# Altium schematic symbol library MY-I.MX6-SCH_Library.SchLib: 148 symbols
Pins are listed as number, name and electrical type; pins without a type are passive.

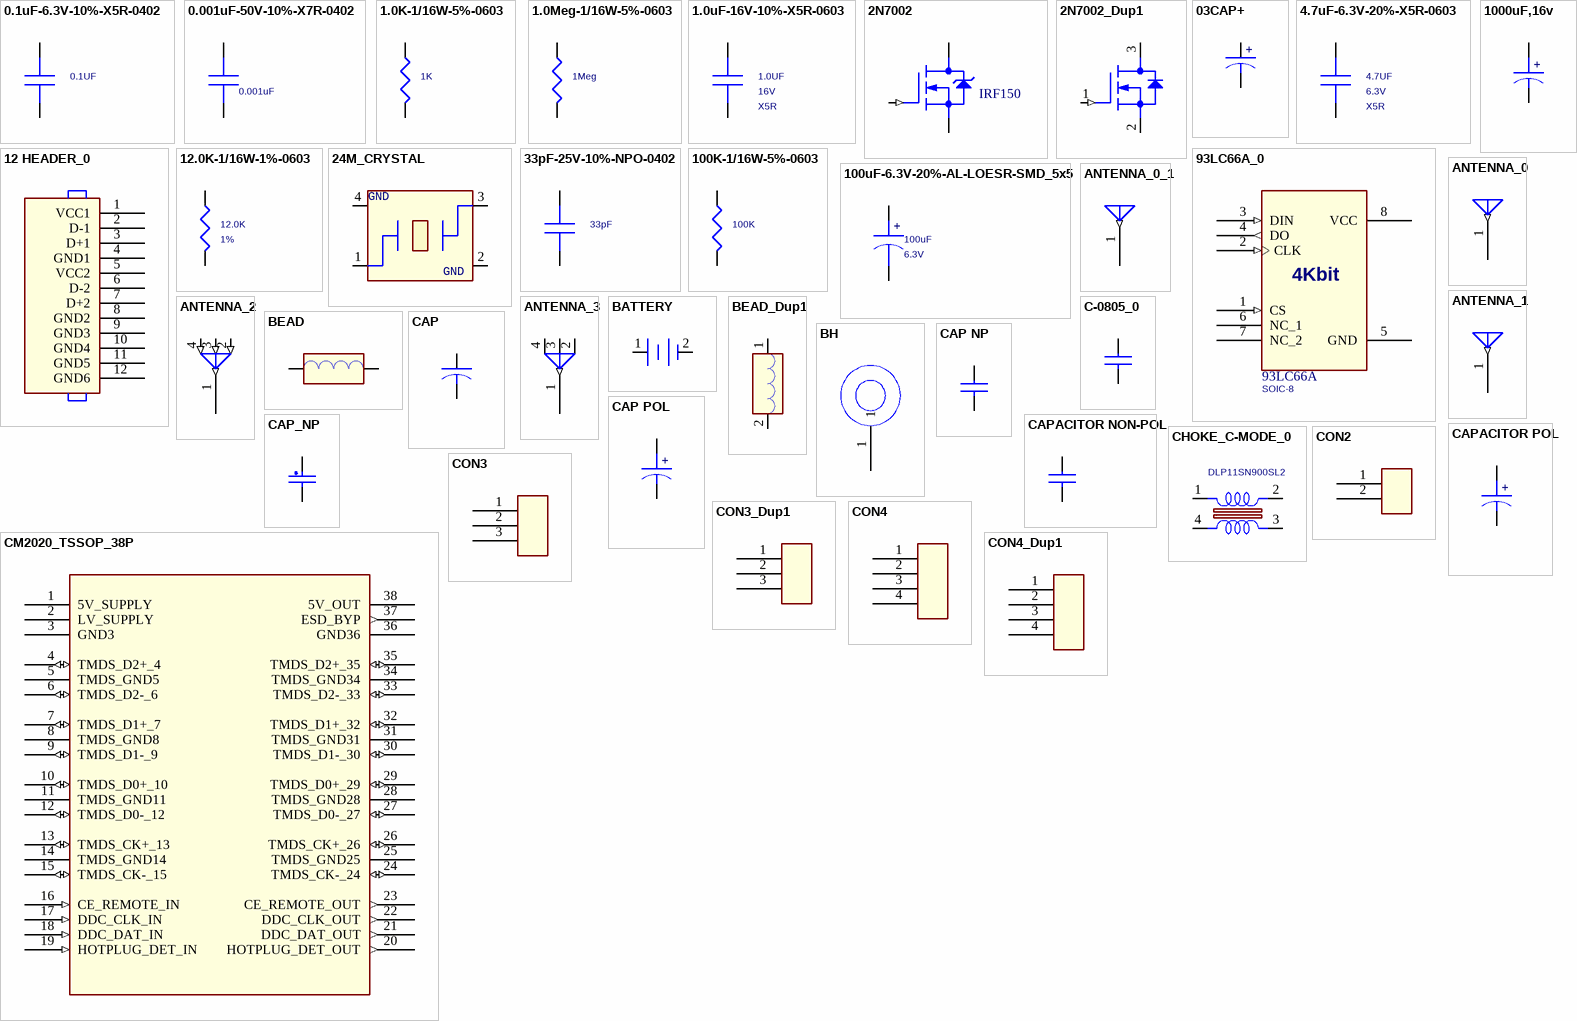
[diagram p0: symbols 0.1uF-6.3V-10%-X5R-0402 to CON4_Dup1]

## 0.1uF-6.3V-10%-X5R-0402
designator C?, comment 0.1UF
Capacitor, 0.1uF, 6.3V, 10%, X5R, 0402; Cost_100: 0.0184; Cost_1K: 0.01005; Dist1: Digikey; Dist1_PN: PCC2146CT-ND; Device: CAP0402; Mfg1_PN: ECJ-0EB1A104K; Mfg1: Panasonic; Cost_Reel: 0.00871; Mfg2_PN: MCCJ104K0NRTF; DNP: No; Cost: 0.026; Dielectric: X5R; Voltage: 6.3V; TOLERANCE: 10%; Mfg2: SMEC
footprint SMD_0402
pins: 1, 2

## 0.001uF-50V-10%-X7R-0402
designator C?, comment 0.001uF
Capacitor, 1000pF, 50V, 10%, X7R, 0402; DNP: No; Cost_100: 0.0486; Device: CAP0402; Mfg1_PN: MCCJ102K0NRTF; Mfg1: SMEC; Cost_Reel: 0.0026; Mfg2_PN: ECJ-0EB1E102K; Cost_1K: 0.02666; Cost: 0.072; Dielectric: X7R; Voltage: 50V; TOLERANCE: 10%; Mfg2: Panasonic
footprint SMD_0402
pins: 1, 2

## 1.0K-1/16W-5%-0603
designator R?, comment 1K
Resistor, 1K, 5%, 1/16W, 0603; DNP: No; Mfg3_PN: RK73B1JLTD102J; Dist1: Digikey; Dist1_PN: 311-1.0KGCT-ND; Mfg1_PN: 9C06031A1001JLHFT; Mfg2_PN: MCR03EZHJ102; Mfg1: Yageo America; Device: RES0603; Cost_Reel: 0.00468; Cost_1K: 0.01612; Cost_100: 0.0412; Mfg3: KOA Speer; Cost: 0.076; Mfg2: KOA Speer; Tolerance: 5%; Wattage: 1/16W
footprint SMD_0603
pins: 1, 2

## 1.0Meg-1/16W-5%-0603
designator R?, comment 1Meg
Resistor, 1Meg, 5%, 1/16W, 0603; DNP: No; Mfg3_PN: RK73B1JLTD105J; Mfg1_PN: 9C06031A1004JLHFT; Mfg2_PN: MCR03EZHJ105; Mfg1: Yageo America; Device: RES0603; Dist1_PN: 311-1.0MGCT-ND; Dist1: Digikey; Cost_Reel: 0.00468; Cost_1K: 0.01612; Cost_100: 0.0412; Mfg3: KOA Speer; Mfg2: Rohm; Tolerance: 5%; Wattage: 1/16W; Cost: 0.076
footprint SMD_0603
pins: 1, 2

## 1.0uF-16V-10%-X5R-0603
designator C?, comment 1.0UF  Dielectric: X5R  Voltage: 16V
Capacitor, 1.0uF, 16VDC, 10%, X5R, 0603; DNP: No; Cost_100: 0.0943; Mfg1: Panasonic; Device: CAP0603; Mfg1_PN: ECJ-1VB1C105K; Dist1_PN: PCC2224CT-ND; Dist1: Digikey; Cost_Reel: 0.049; Cost_1K: 0.05279; Tolerance: 10%; Cost: 0.132
footprint SMD_0603
pins: 1, 2

## 2N7002
designator Q?, comment IRF150
pins: 1 GATE (in), 2 SOURCE, 3 DRAIN

## 2N7002_Dup1
designator Q?
pins: 1 GATE (in), 2 SOURCE, 3 DRAIN

## 03CAP+
designator CT?
footprint C1206
pins: 1, 2
text: +

## 4.7uF-6.3V-20%-X5R-0603
designator C?, comment 4.7UF  Dielectric: X5R  Voltage: 6.3V
Capacitor, 4.7uF, 6.3VDC, 20%, X5R, 0603; DNP: No; Cost_100: 0.1665; Cost_1K: 0.09084; PCB Footprint: 603; Mfg1: Panasonic; Device: CAP0603; Mfg1_PN: ECJ-1VB0J475M; Dist1_PN: PCC2318CT-ND; Dist1: Digikey; Tolerance: 20%; Cost: 0.236
footprint SMD_0603
pins: 1, 2

## 12 HEADER_0
designator J?
pins: 1 VCC1, 2 D-1, 3 D+1, 4 GND1, 5 VCC2, 6 D-2, 7 D+2, 8 GND2, 9 GND3, 10 GND4, 11 GND5, 12 GND6

## 12.0K-1/16W-1%-0603
designator R?, comment 12.0K  Tolerance: 1%
Resistor, 12.0K, 1%, 1/16W, 0603; DNP: No; Dist1: Digikey; Dist1_PN: 311-12.0KHCT-ND; Device: RES0603; Mfg1: Yageo America; Mfg2_PN: MCR03EZHF1202; Mfg1_PN: 9C06031A1202FKHFT; Cost_Reel: 0.00765; Cost_1K: 0.019; Cost_100: 0.0484; Cost: 0.09; Wattage: 1/16W; Mfg2: Rohm
footprint SMD_0603
pins: 1, 2

## 24M_CRYSTAL
designator U?
pins: 1, 2 GND2, 3, 4 GND1
text: GND

## 33pF-25V-10%-NPO-0402
designator C?, comment 33pF
Capacitor, 33pF, 25V, 10%, NPO, 0402; Cost_100: 0.0384; Cost_1K: 0.01534; Cost_Reel: 0.01062; Dist1: Digikey; Dist1_PN: PCC330CQCT-ND; Device: CAP0402; Mfg1_PN: ECJ-0EC1H330J; Mfg1: Panasonic ECG; Voltage: 50V; PCB Footprint: 402; Mfg2_PN: MCCJ330K0NRTF; DNP: No; Cost: 0.065; Dielectric: NPO; TOLERANCE: 10%; Mfg2: SMEC
footprint SMD_0402
pins: 1, 2

## 93LC66A_0
designator U?, comment 93LC66A  PCB Footprint: SOIC-8
PART#: Microchip - 93LC66A/SN
footprint SOIC-8
pins: 1 CS (in), 2 CLK (in), 3 DIN (in), 4 DO (out), 5 GND (power), 6 NC_1, 7 NC_2, 8 VCC (power)
text: 4Kbit

## 100K-1/16W-5%-0603
designator R?, comment 100K
Resistor, 100K, 5%, 1/16W, 0603; DNP: No; Cost_100: 0.0412; Cost_1K: 0.01612; Cost_Reel: 0.02365; Dist1: Digikey; Dist1_PN: 311-100KGCT-ND; Device: RES0603; Mfg1: Yageo America; Mfg2_PN: MCR03EZHJ104; Mfg1_PN: 9C06031A1003JLHFT; Cost: 0.076; Wattage: 1/16W; Tolerance: 5%; Mfg2: Rohm
footprint SMD_0603
pins: 1, 2

## 100uF-6.3V-20%-AL-LOESR-SMD_5x5
designator C?, comment 100uF  Voltage: 6.3V
Capacitor, Low ESR, 100uF, 6.3VDC, 20%, Aluminum, Radial-SMT, 5mm x 5.8mm; Mfg2_PN: EEE-FPJ101UAR; DNP: No; Cost_1K: 0.071; Cost_100: 0.1324; Dist1: United Chemi-Con; Dist1_PN: EMZA6R3ADA101ME61G; Device: CAPE_RAD_5_SMT; Mfg2: Panasonic; Cost: 0.188; Dielectric: Aluminum; Mfg1_PN: EMZA6R3ADA101ME61G; Tolerance: 20%; Mfg1: United Chemi-Con
footprint CAPE_RAD_5_SMT
pins: 1, 2
text: +

## 1000uF,16v
designator CD?
footprint AEC12r5x13r5
pins: 1, 2
text: +

## ANTENNA_0
designator E?
pins: 1 (out), 2 GND (power) hidden to GND, 3 GND (power) hidden to GND, 4 GND (power) hidden to GND

## ANTENNA_0_1
designator E?
pins: 1 (out), 2 GND_ANT (power) hidden to GND_ANT, 3 GND_ANT (power) hidden to GND_ANT, 4 GND_ANT (power) hidden to GND_ANT

## ANTENNA_1
designator E?
pins: 1 (out), 2 (power) hidden, 3 (power) hidden, 4 (power) hidden

## ANTENNA_2
designator E?
pins: 1 (out), 2 (in), 3 (in), 4 (in)

## ANTENNA_3
designator E?
pins: 1 (out), 2, 3, 4

## BATTERY
designator BT?
pins: 1, 2

## BEAD
designator L?
pins: 1, 2

## BEAD_Dup1
designator L?
pins: 1, 2

## BH
designator H?
pins: 1

## C-0805_0
designator C?
footprint C-0805
pins: 1, 2

## CAP
designator C?
pins: 1, 2

## CAP NP
designator C?
pins: 1, 2

## CAP POL
designator C?
pins: 1, 2
text: +

## CAP_NP
designator C?
CLASS: DISCRETE
pins: 1, 2

## CAPACITOR NON-POL
designator C?
pins: 1, 2

## CAPACITOR POL
designator C?
pins: 1, 2
text: +

## CHOKE_C-MODE_0
designator L?, comment DLP11SN900SL2
Inductor, Common Mode Choke, DLP11SN900SL2, 0504; Cost_100: 0.32; Cost_1K: 0.26; Dist1_PN: 81-DLP11SN900SL2L; Mfg1: Murata; Dist1: Mouser; Device: 0504CHOKE; DNP: No; Mfg2_PN: EXC-24CE201U; Cost: 0.56; Mfg1_PN: DLP11SN900SL2; Mfg2: Panasonic
footprint MURATA_DLW21S
pins: 1, 2, 3, 4

## CM2020_TSSOP_38P
designator U?
CLASS: IC
pins: 1 5V_SUPPLY (power), 2 LV_SUPPLY (power), 3 GND3 (power), 4 TMDS_D2+_4 (io), 5 TMDS_GND5 (power), 6 TMDS_D2-_6 (io), 7 TMDS_D1+_7 (io), 8 TMDS_GND8 (power), 9 TMDS_D1-_9 (io), 10 TMDS_D0+_10 (io), 11 TMDS_GND11 (power), 12 TMDS_D0-_12 (io), 13 TMDS_CK+_13 (io), 14 TMDS_GND14 (power), 15 TMDS_CK-_15 (io), 16 CE_REMOTE_IN (in), 17 DDC_CLK_IN (in), 18 DDC_DAT_IN (in), 19 HOTPLUG_DET_IN (in), 20 HOTPLUG_DET_OUT (out), 21 DDC_DAT_OUT (out), 22 DDC_CLK_OUT (out), 23 CE_REMOTE_OUT (out), 24 TMDS_CK-_24 (io), 25 TMDS_GND25 (power), 26 TMDS_CK+_26 (io), 27 TMDS_D0-_27 (io), 28 TMDS_GND28 (power), 29 TMDS_D0+_29 (io), 30 TMDS_D1-_30 (io), 31 TMDS_GND31 (power), 32 TMDS_D1+_32 (io), 33 TMDS_D2-_33 (io), 34 TMDS_GND34 (power), 35 TMDS_D2+_35 (io), 36 GND36 (power), 37 ESD_BYP (out), 38 5V_OUT (power)

## CON2
designator J?
pins: 1, 2

## CON3
designator J?
pins: 1, 2, 3

## CON3_Dup1
designator J?
pins: 1, 2, 3

## CON4
designator J?
pins: 1, 2, 3, 4

## CON4_Dup1
designator J?
pins: 1, 2, 3, 4

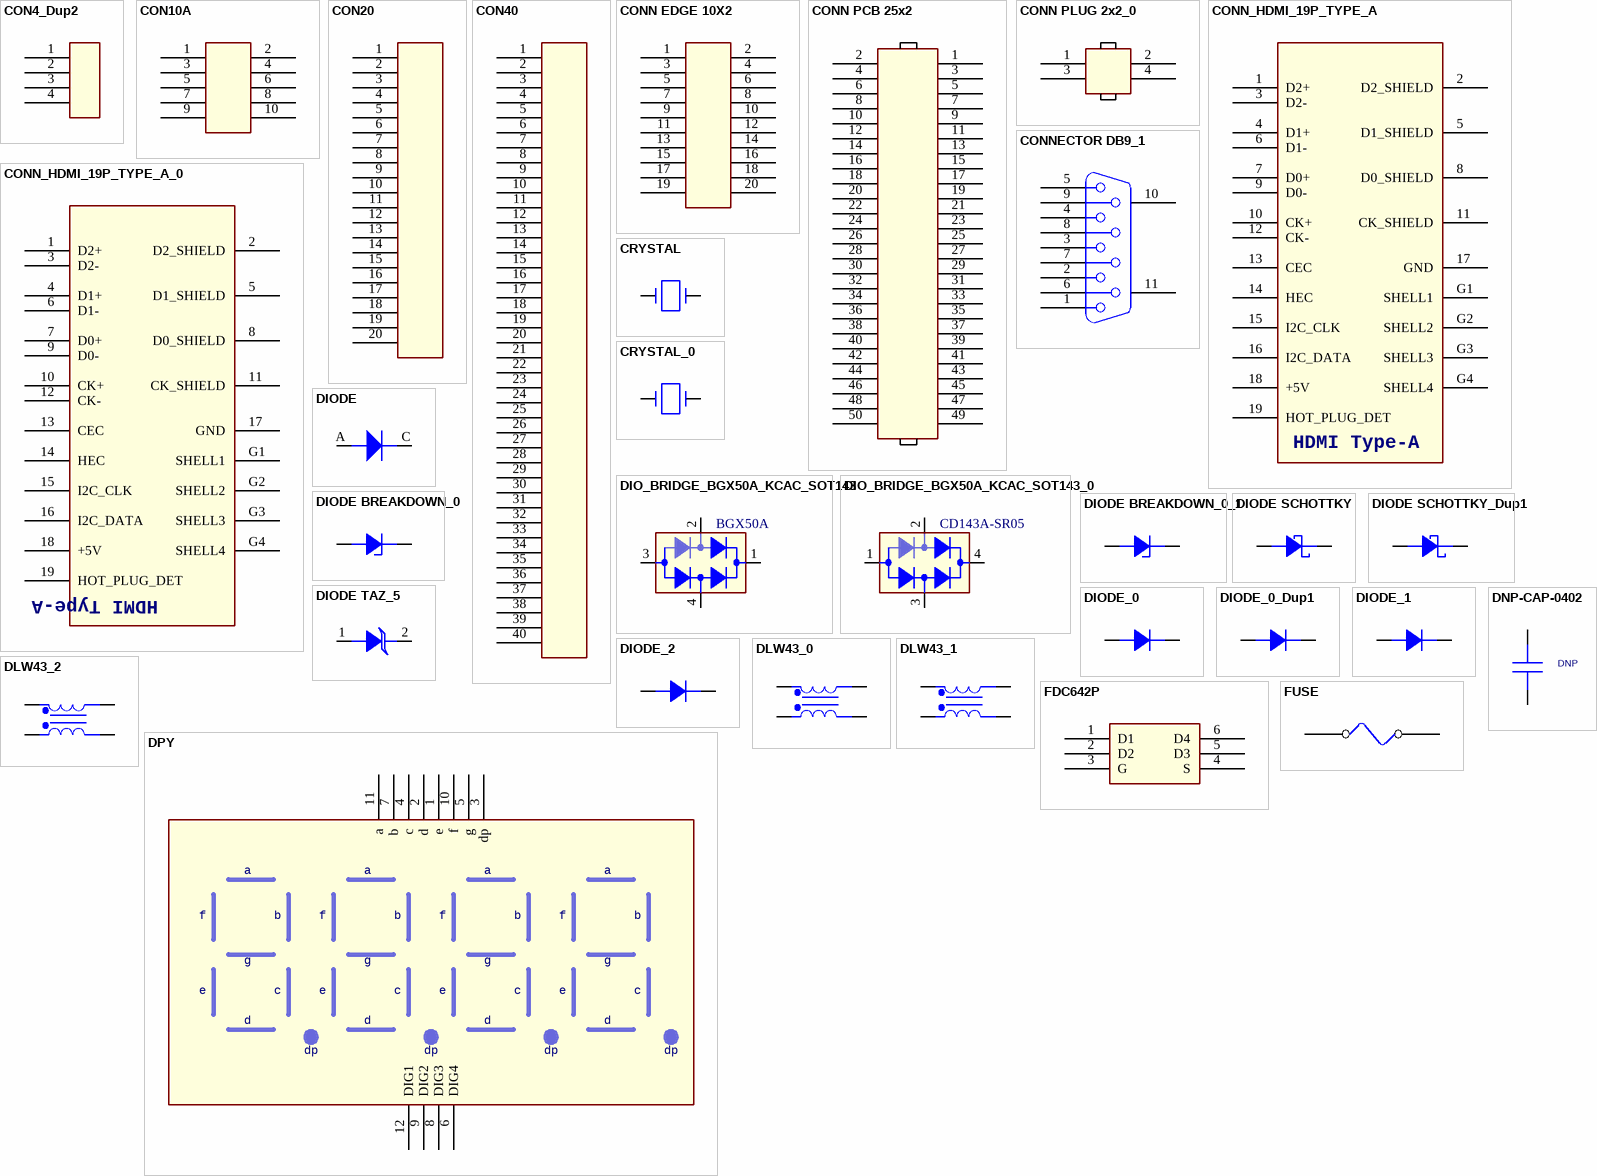
[diagram p1: symbols CON4_Dup2 to FUSE]

## CON4_Dup2
designator J?
pins: 1, 2, 3, 4

## CON10A
designator J?
pins: 1, 2, 3, 4, 5, 6, 7, 8, 9, 10

## CON20
designator J?
pins: 1, 2, 3, 4, 5, 6, 7, 8, 9, 10, 11, 12, 13, 14, 15, 16, 17, 18, 19, 20

## CON40
designator J?
pins: 1, 2, 3, 4, 5, 6, 7, 8, 9, 10, 11, 12, 13, 14, 15, 16, 17, 18, 19, 20, 21, 22, 23, 24, 25, 26, 27, 28, 29, 30, 31, 32, 33, 34, 35, 36, 37, 38, 39, 40

## CONN EDGE 10X2
designator J?
pins: 1, 2, 3, 4, 5, 6, 7, 8, 9, 10, 11, 12, 13, 14, 15, 16, 17, 18, 19, 20

## CONN PCB 25x2
designator J?
pins: 1, 2, 3, 4, 5, 6, 7, 8, 9, 10, 11, 12, 13, 14, 15, 16, 17, 18, 19, 20, 21, 22, 23, 24, 25, 26, 27, 28, 29, 30, 31, 32, 33, 34, 35, 36, 37, 38, 39, 40, 41, 42, 43, 44, 45, 46, 47, 48, 49, 50

## CONN PLUG 2x2_0
designator J?
pins: 1 2, 2 1, 3 4, 4 3

## CONN_HDMI_19P_TYPE_A
designator J?
pins: 1 D2+, 2 D2_SHIELD, 3 D2-, 4 D1+, 5 D1_SHIELD, 6 D1-, 7 D0+, 8 D0_SHIELD, 9 D0-, 10 CK+, 11 CK_SHIELD, 12 CK-, 13 CEC, 14 HEC, 15 I2C_CLK, 16 I2C_DATA, 17 GND, 18 +5V, 19 HOT_PLUG_DET, G1 SHELL1, G2 SHELL2, G3 SHELL3, G4 SHELL4
text: HDMI Type-A

## CONN_HDMI_19P_TYPE_A_0
designator J?
pins: 1 D2+, 2 D2_SHIELD, 3 D2-, 4 D1+, 5 D1_SHIELD, 6 D1-, 7 D0+, 8 D0_SHIELD, 9 D0-, 10 CK+, 11 CK_SHIELD, 12 CK-, 13 CEC, 14 HEC, 15 I2C_CLK, 16 I2C_DATA, 17 GND, 18 +5V, 19 HOT_PLUG_DET, G1 SHELL1, G2 SHELL2, G3 SHELL3, G4 SHELL4
text: HDMI Type-A

## CONNECTOR DB9_1
designator P?
pins: 1, 2, 3, 4, 5, 6, 7, 8, 9, 10, 11

## CRYSTAL
designator Y?
pins: 1, 2

## CRYSTAL_0
designator Y?
pins: 1, 2

## DIO_BRIDGE_BGX50A_KCAC_SOT143
designator BR?, comment BGX50A
Diode, Bridge, Switching, 50V, 140mA,KCAC,  SOT-143; Cost_100: 0.165; Cost_10: 0.234; Cost_1K: 0.075; Cost_Reel: 0.06113; Dist1: Digikey; Dist1_PN: BGX50AINCT-ND; Device: DIODE_KCAC_BRIDGE_BGX50A; Mfg1: Infineon Tech; DNP: No; Mfg1_PN: BGX50A
footprint SOT143
pins: 1, 2, 3, 4

## DIO_BRIDGE_BGX50A_KCAC_SOT143_0
designator BR?, comment CD143A-SR05
Diode, Bridge, Switching, 50V, 140mA,KCAC,  SOT-143; DNP: No; Mfg1_PN: BGX50A; Mfg1: Infineon Tech; Device: DIODE_KCAC_BRIDGE_BGX50A; Dist1_PN: BGX50AINCT-ND; Dist1: Digikey; Cost_Reel: 0.06113; Cost_1K: 0.075; Cost_10: 0.234; Cost_100: 0.165
footprint SOT143
pins: 1, 2, 3, 4

## DIODE
designator D?
CLASS: IC
pins: A ANODE, C CATHODE

## DIODE BREAKDOWN_0
designator D?
pins: 1 ANODE, 2 CATHODE

## DIODE BREAKDOWN_0_1
designator D?
pins: 1 ANODE, 2 CATHODE

## DIODE SCHOTTKY
designator D?
pins: 1 ANODE, 2 CATHODE

## DIODE SCHOTTKY_Dup1
designator D?
pins: 1 ANODE, 2 CATHODE

## DIODE TAZ_5
designator D?
pins: 1 A, 2 C

## DIODE_0
designator D?
pins: 1, 2

## DIODE_0_Dup1
designator D?
pins: 1 K, 2 A

## DIODE_1
designator D?
pins: 1 K, 2 A

## DIODE_2
designator D?
pins: 1 A, 2 K

## DLW43_0
designator L?
pins: 1, 2, 3, 4

## DLW43_1
designator L?
pins: 1, 2, 3, 4

## DLW43_2
designator L?
pins: 1, 2, 3, 4

## DNP-CAP-0402
designator C?, comment DNP
Capacitor, Do Not Populate, 0402; Cost_100: 0; Device: CAP0402; Cost_1K: 0; Cost_Reel: 0; Cost: 0
footprint SMD_0402
pins: 1, 2

## DPY
designator DP?
pins: 1 e, 2 d, 3 dp, 4 c, 5 g, 6 DIG4, 7 b, 8 DIG3, 9 DIG2, 10 f, 11 a, 12 DIG1

## FDC642P
designator U?
pins: 1 D1, 2 D2, 3 G, 4 S, 5 D3, 6 D4

## FUSE
designator F?
pins: 1, 2

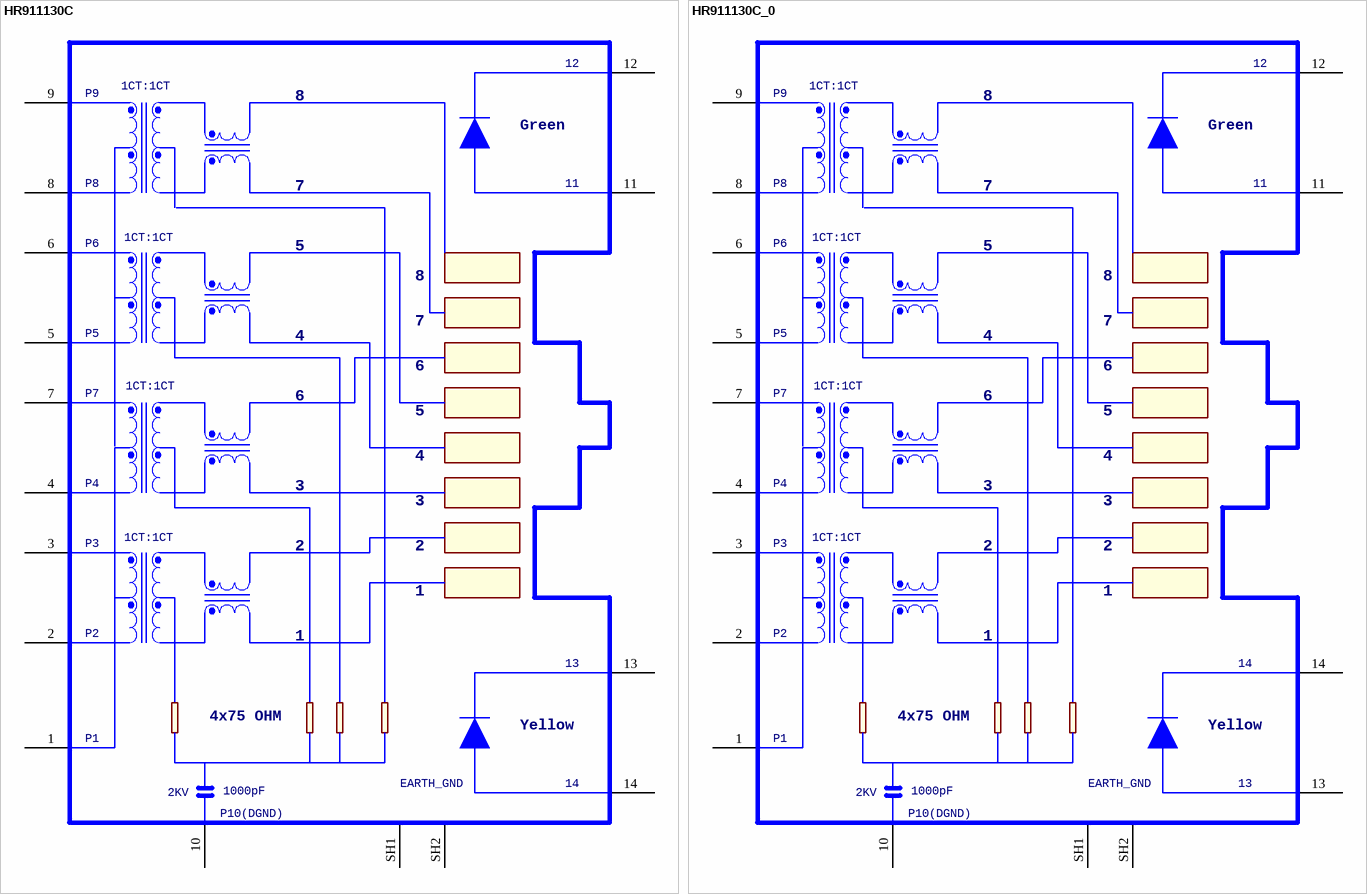
[diagram p2: symbols HR911130C to HR911130C_0]

## HR911130C
designator U?
footprint GBE_RJ45_HR911130C
pins: 1 CT1/2/3/4, 2 MDI_0+, 3 MDI_0-, 4 MDI_1+, 5 MDI_2+, 6 MDI_2-, 7 MDI_1-, 8 MDI_3+, 9 MDI_3-, 10 GND, 11 G_LED+, 12 G_LED-, 13 Y_LED-, 14 Y_LED+, SH1, SH2
text: 1CT:1CT; P9; Green; P8; P6; P5; P7; P4; P3; P2; 4x75 OHM; Yellow; P1; EARTH_GND; 2KV; 1000pF; P10(DGND)

## HR911130C_0
designator U?
footprint GBE_RJ45_HR911130C
pins: 1 CT1/2/3/4, 2 MDI_0+, 3 MDI_0-, 4 MDI_1+, 5 MDI_2+, 6 MDI_2-, 7 MDI_1-, 8 MDI_3+, 9 MDI_3-, 10 GND, 11 G_LED+, 12 G_LED-, 13 Y_LED-, 14 Y_LED+, SH1, SH2
text: 1CT:1CT; P9; Green; P8; P6; P5; P7; P4; P3; P2; 4x75 OHM; Yellow; P1; EARTH_GND; 2KV; 1000pF; P10(DGND)

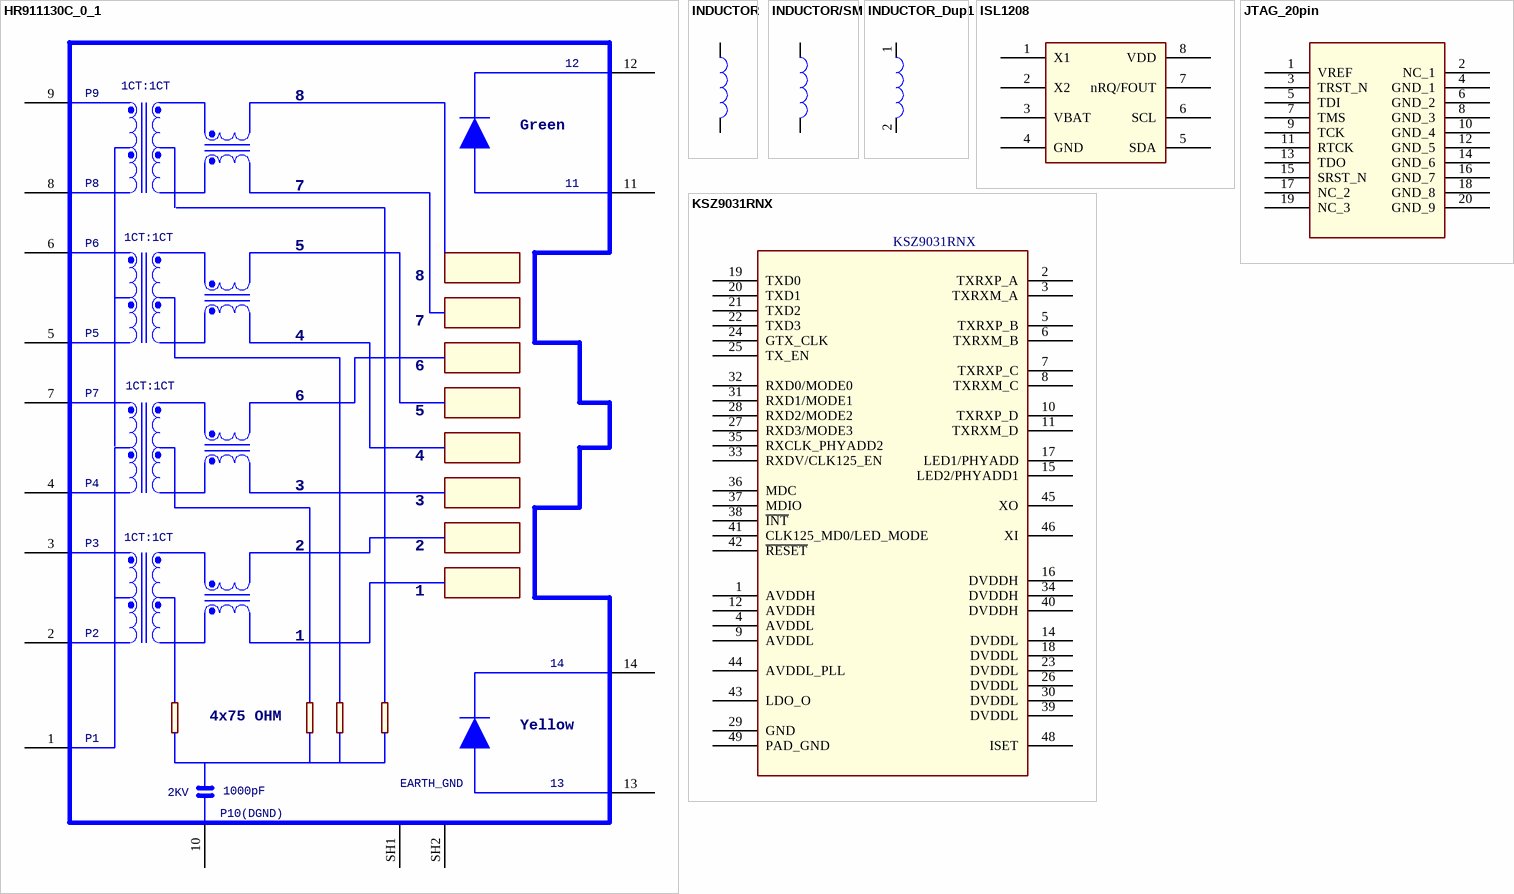
[diagram p3: symbols HR911130C_0_1 to KSZ9031RNX]

## HR911130C_0_1
designator U?
footprint GBE_RJ45_HR911130C
pins: 1 CT1/2/3/4, 2 MDI_0+, 3 MDI_0-, 4 MDI_1+, 5 MDI_2+, 6 MDI_2-, 7 MDI_1-, 8 MDI_3+, 9 MDI_3-, 10 GND, 11 G_LED+, 12 G_LED-, 13 Y_LED-, 14 Y_LED+, SH1, SH2
text: 1CT:1CT; P9; Green; P8; P6; P5; P7; P4; P3; P2; 4x75 OHM; Yellow; P1; EARTH_GND; 2KV; 1000pF; P10(DGND)

## INDUCTOR
designator L?
pins: 1, 2

## INDUCTOR/SM
designator L?
pins: 1, 2

## INDUCTOR_Dup1
designator L?
CLASS: DISCRETE
pins: 1, 2

## ISL1208
designator U?
pins: 1 X1, 2 X2, 3 VBAT, 4 GND, 5 SDA, 6 SCL, 7 nRQ/FOUT, 8 VDD

## JTAG_20pin
designator J?
pins: 1 VREF, 2 NC_1, 3 TRST_N, 4 GND_1, 5 TDI, 6 GND_2, 7 TMS, 8 GND_3, 9 TCK, 10 GND_4, 11 RTCK, 12 GND_5, 13 TDO, 14 GND_6, 15 SRST_N, 16 GND_7, 17 NC_2, 18 GND_8, 19 NC_3, 20 GND_9

## KSZ9031RNX
designator U?
footprint QFN48
pins: 1 AVDDH (power), 2 TXRXP_A, 3 TXRXM_A, 4 AVDDL (power), 5 TXRXP_B, 6 TXRXM_B, 7 TXRXP_C, 8 TXRXM_C, 9 AVDDL (power), 10 TXRXP_D, 11 TXRXM_D, 12 AVDDH (power), 13 NC (power) hidden to NC, 14 DVDDL (power), 15 LED2/PHYADD1, 16 DVDDH (power), 17 LED1/PHYADD, 18 DVDDL (power), 19 TXD0, 20 TXD1, 21 TXD2, 22 TXD3, 23 DVDDL (power), 24 GTX_CLK, 25 TX_EN, 26 DVDDL (power), 27 RXD3/MODE3, 28 RXD2/MODE2, 29 GND (power), 30 DVDDL (power), 31 RXD1/MODE1, 32 RXD0/MODE0, 33 RXDV/CLK125_EN, 34 DVDDH (power), 35 RXCLK_PHYADD2, 36 MDC, 37 MDIO, 38 ~{INT}, 39 DVDDL (power), 40 DVDDH (power), 41 CLK125_MD0/LED_MODE, 42 ~{RESET}, 43 LDO_O (power), 44 AVDDL_PLL (power), 45 XO, 46 XI, 47 NC (power) hidden to NC, 48 ISET, 49 PAD_GND (power)

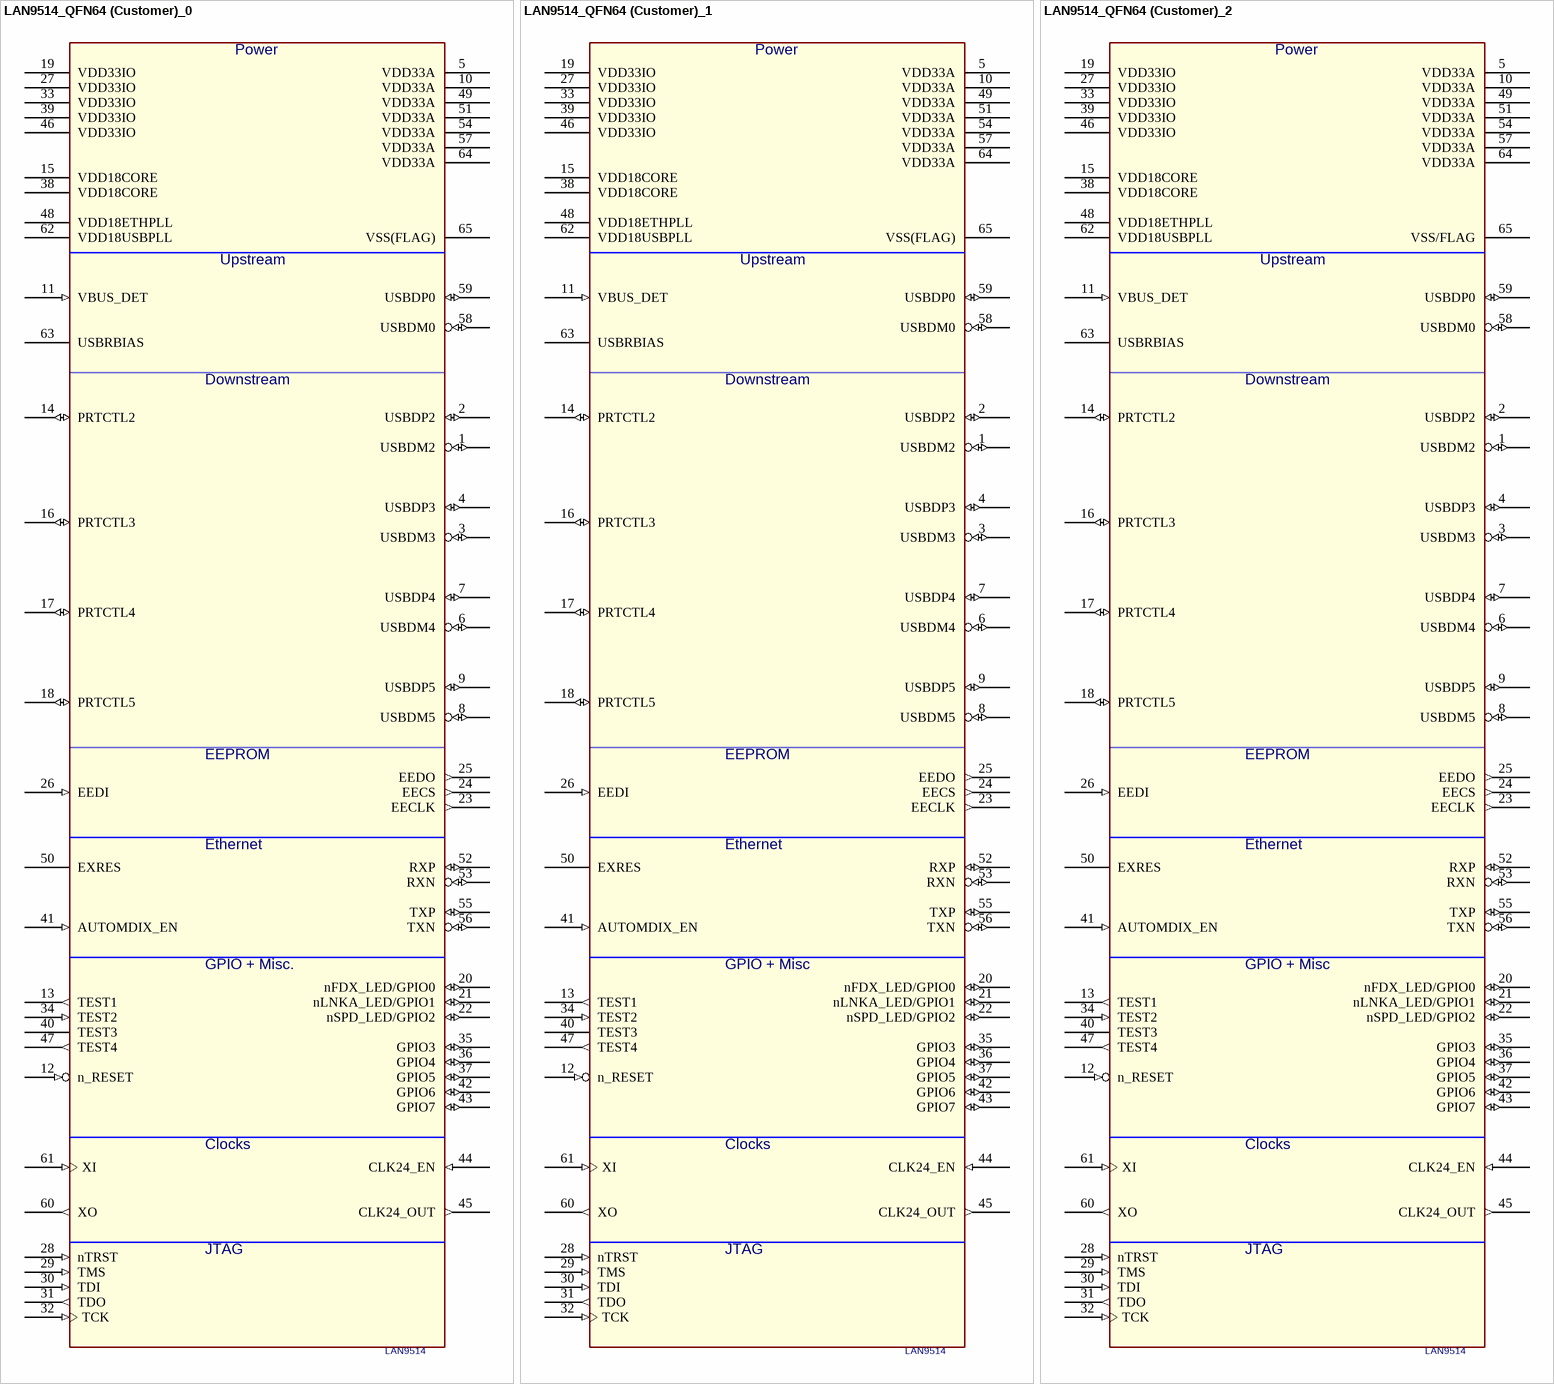
[diagram p4: symbols LAN9514_QFN64 (Customer)_0 to LAN9514_QFN64 (Customer)_2]

## LAN9514_QFN64 (Customer)_0
designator U?  PART#: LAN9514  (hidden comment: *)
PCB Footprint: QFN64_9X9MM_EP7P3MM
footprint QFN64_9X9MM_EP7P3MM
pins: 1 USBDM2 (io), 2 USBDP2 (io), 3 USBDM3 (io), 4 USBDP3 (io), 5 VDD33A (power), 6 USBDM4 (io), 7 USBDP4 (io), 8 USBDM5 (io), 9 USBDP5 (io), 10 VDD33A (power), 11 VBUS_DET (in), 12 n_RESET (in), 13 TEST1 (out), 14 PRTCTL2 (io), 15 VDD18CORE (power), 16 PRTCTL3 (io), 17 PRTCTL4 (io), 18 PRTCTL5 (io), 19 VDD33IO (power), 20 nFDX_LED/GPIO0 (io), 21 nLNKA_LED/GPIO1 (io), 22 nSPD_LED/GPIO2 (io), 23 EECLK (out), 24 EECS (out), 25 EEDO (out), 26 EEDI (in), 27 VDD33IO (power), 28 nTRST (in), 29 TMS (in), 30 TDI (in), 31 TDO (out), 32 TCK (in), 33 VDD33IO (power), 34 TEST2 (in), 35 GPIO3 (io), 36 GPIO4 (io), 37 GPIO5 (io), 38 VDD18CORE (power), 39 VDD33IO (power), 40 TEST3 (power), 41 AUTOMDIX_EN (in), 42 GPIO6 (io), 43 GPIO7 (io), 44 CLK24_EN (in), 45 CLK24_OUT (out), 46 VDD33IO (power), 47 TEST4 (out), 48 VDD18ETHPLL (power), 49 VDD33A (power), 50 EXRES, 51 VDD33A (power), 52 RXP (io), 53 RXN (io), 54 VDD33A (power), 55 TXP (io), 56 TXN (io), 57 VDD33A (power), 58 USBDM0 (io), 59 USBDP0 (io), 60 XO (out), 61 XI (in), 62 VDD18USBPLL (power), 63 USBRBIAS, 64 VDD33A (power), 65 VSS(FLAG) (power)
text: Power; Upstream; Downstream; EEPROM; Ethernet; GPIO + Misc.; Clocks; JTAG

## LAN9514_QFN64 (Customer)_1
designator U?  PART#: LAN9514  (hidden comment: *)
PCB Footprint: QFN64_9X9MM_EP7P3MM
footprint QFN64_9X9MM_EP7P3MM
pins: 1 USBDM2 (io), 2 USBDP2 (io), 3 USBDM3 (io), 4 USBDP3 (io), 5 VDD33A (power), 6 USBDM4 (io), 7 USBDP4 (io), 8 USBDM5 (io), 9 USBDP5 (io), 10 VDD33A (power), 11 VBUS_DET (in), 12 n_RESET (in), 13 TEST1 (out), 14 PRTCTL2 (io), 15 VDD18CORE (power), 16 PRTCTL3 (io), 17 PRTCTL4 (io), 18 PRTCTL5 (io), 19 VDD33IO (power), 20 nFDX_LED/GPIO0 (io), 21 nLNKA_LED/GPIO1 (io), 22 nSPD_LED/GPIO2 (io), 23 EECLK (out), 24 EECS (out), 25 EEDO (out), 26 EEDI (in), 27 VDD33IO (power), 28 nTRST (in), 29 TMS (in), 30 TDI (in), 31 TDO (out), 32 TCK (in), 33 VDD33IO (power), 34 TEST2 (in), 35 GPIO3 (io), 36 GPIO4 (io), 37 GPIO5 (io), 38 VDD18CORE (power), 39 VDD33IO (power), 40 TEST3 (power), 41 AUTOMDIX_EN (in), 42 GPIO6 (io), 43 GPIO7 (io), 44 CLK24_EN (in), 45 CLK24_OUT (out), 46 VDD33IO (power), 47 TEST4 (out), 48 VDD18ETHPLL (power), 49 VDD33A (power), 50 EXRES, 51 VDD33A (power), 52 RXP (io), 53 RXN (io), 54 VDD33A (power), 55 TXP (io), 56 TXN (io), 57 VDD33A (power), 58 USBDM0 (io), 59 USBDP0 (io), 60 XO (out), 61 XI (in), 62 VDD18USBPLL (power), 63 USBRBIAS, 64 VDD33A (power), 65 VSS(FLAG) (power)
text: Power; Upstream; Downstream; EEPROM; Ethernet; GPIO + Misc; Clocks; JTAG

## LAN9514_QFN64 (Customer)_2
designator U?  PART#: LAN9514  (hidden comment: *)
PCB Footprint: QFN64_9X9MM_EP7P3MM
footprint QFN64_9X9MM_EP7P3MM
pins: 1 USBDM2 (io), 2 USBDP2 (io), 3 USBDM3 (io), 4 USBDP3 (io), 5 VDD33A (power), 6 USBDM4 (io), 7 USBDP4 (io), 8 USBDM5 (io), 9 USBDP5 (io), 10 VDD33A (power), 11 VBUS_DET (in), 12 n_RESET (in), 13 TEST1 (out), 14 PRTCTL2 (io), 15 VDD18CORE (power), 16 PRTCTL3 (io), 17 PRTCTL4 (io), 18 PRTCTL5 (io), 19 VDD33IO (power), 20 nFDX_LED/GPIO0 (io), 21 nLNKA_LED/GPIO1 (io), 22 nSPD_LED/GPIO2 (io), 23 EECLK (out), 24 EECS (out), 25 EEDO (out), 26 EEDI (in), 27 VDD33IO (power), 28 nTRST (in), 29 TMS (in), 30 TDI (in), 31 TDO (out), 32 TCK (in), 33 VDD33IO (power), 34 TEST2 (in), 35 GPIO3 (io), 36 GPIO4 (io), 37 GPIO5 (io), 38 VDD18CORE (power), 39 VDD33IO (power), 40 TEST3 (power), 41 AUTOMDIX_EN (in), 42 GPIO6 (io), 43 GPIO7 (io), 44 CLK24_EN (in), 45 CLK24_OUT (out), 46 VDD33IO (power), 47 TEST4 (out), 48 VDD18ETHPLL (power), 49 VDD33A (power), 50 EXRES, 51 VDD33A (power), 52 RXP (io), 53 RXN (io), 54 VDD33A (power), 55 TXP (io), 56 TXN (io), 57 VDD33A (power), 58 USBDM0 (io), 59 USBDP0 (io), 60 XO (out), 61 XI (in), 62 VDD18USBPLL (power), 63 USBRBIAS, 64 VDD33A (power), 65 VSS/FLAG (power)
text: Power; Upstream; Downstream; EEPROM; Ethernet; GPIO + Misc; Clocks; JTAG

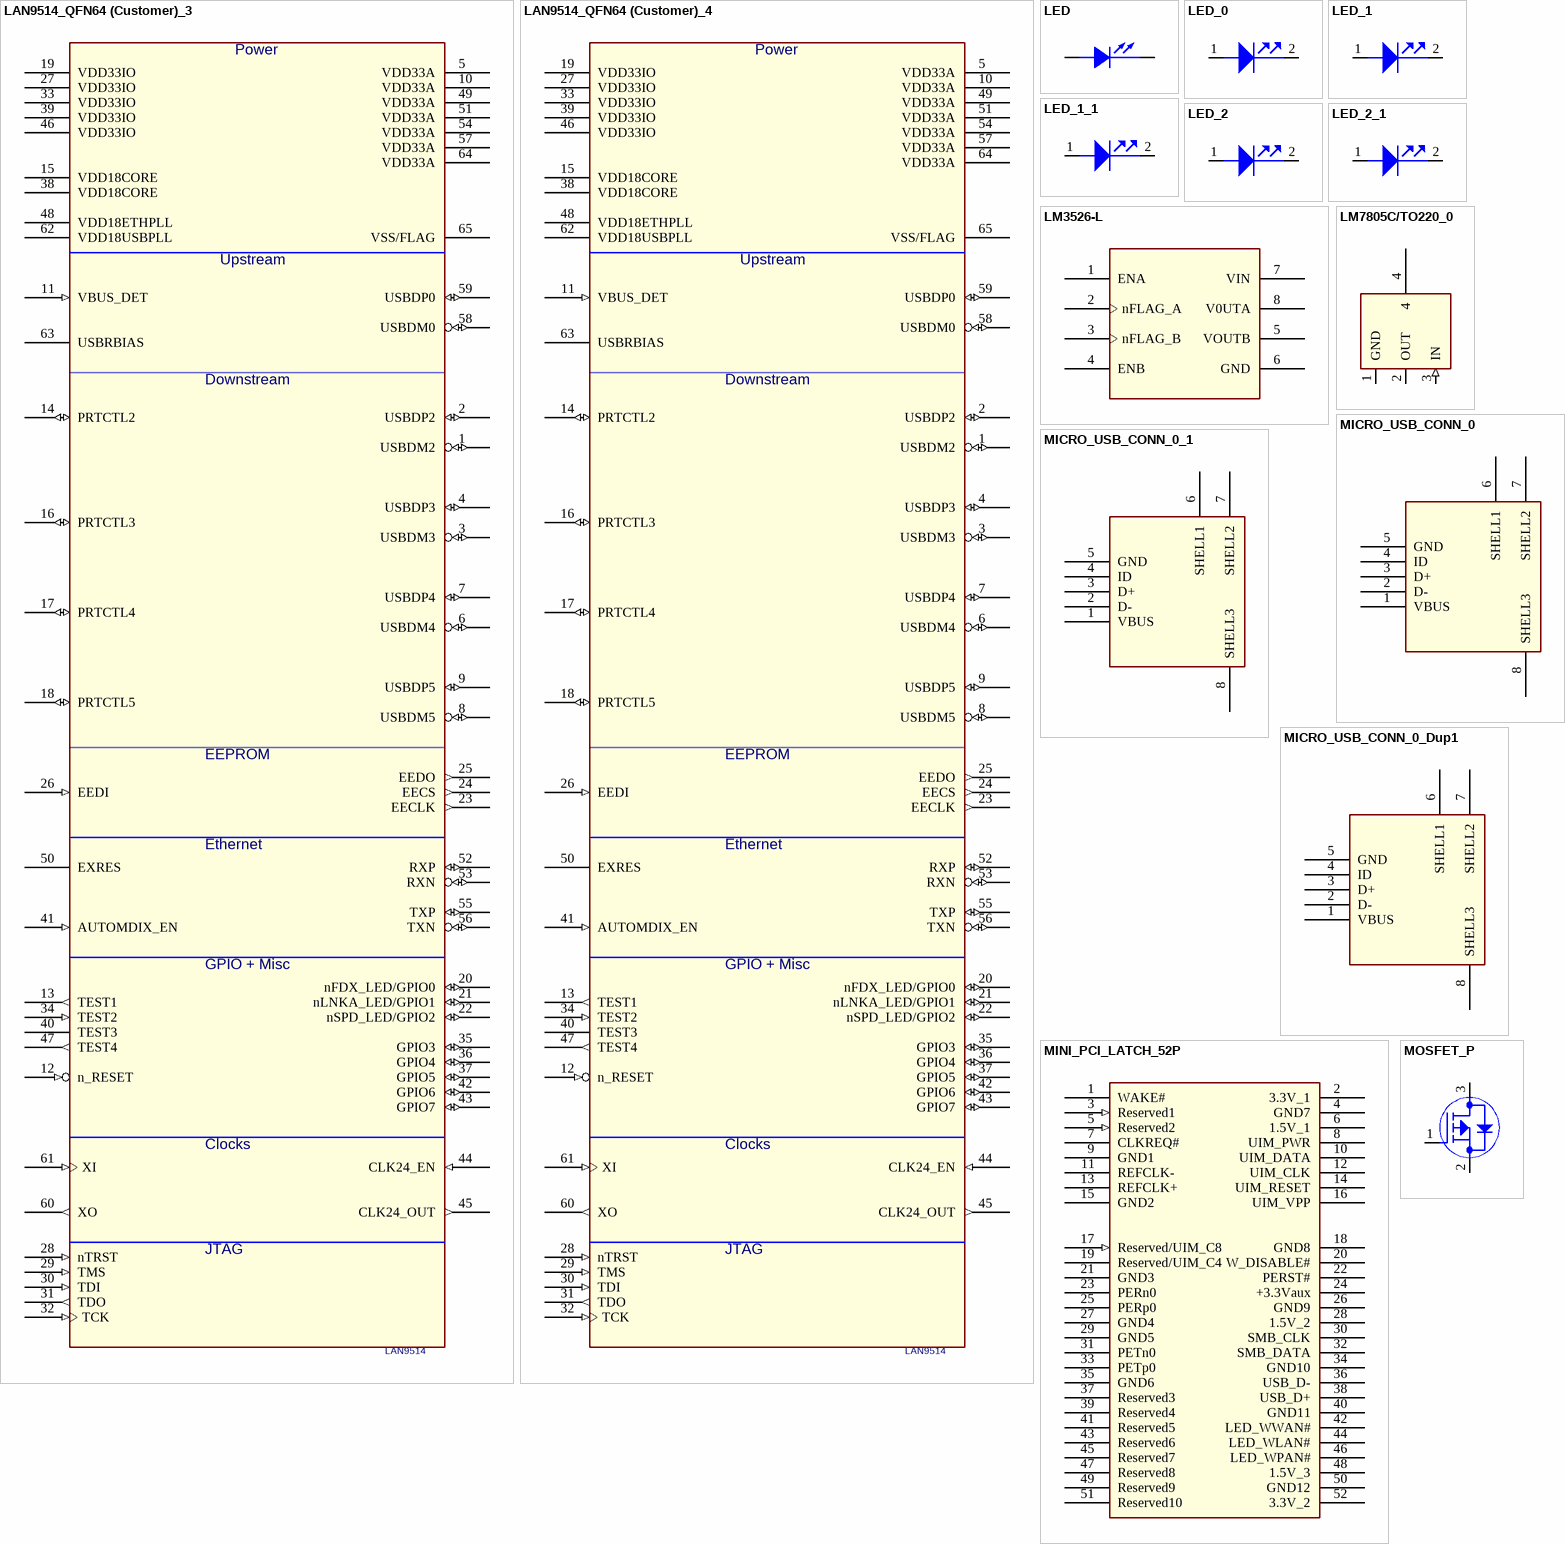
[diagram p5: symbols LAN9514_QFN64 (Customer)_3 to MOSFET_P]

## LAN9514_QFN64 (Customer)_3
designator U?  PART#: LAN9514  (hidden comment: *)
PCB Footprint: QFN64_9X9MM_EP7P3MM
footprint QFN64_9X9MM_EP7P3MM
pins: 1 USBDM2 (io), 2 USBDP2 (io), 3 USBDM3 (io), 4 USBDP3 (io), 5 VDD33A (power), 6 USBDM4 (io), 7 USBDP4 (io), 8 USBDM5 (io), 9 USBDP5 (io), 10 VDD33A (power), 11 VBUS_DET (in), 12 n_RESET (in), 13 TEST1 (out), 14 PRTCTL2 (io), 15 VDD18CORE (power), 16 PRTCTL3 (io), 17 PRTCTL4 (io), 18 PRTCTL5 (io), 19 VDD33IO (power), 20 nFDX_LED/GPIO0 (io), 21 nLNKA_LED/GPIO1 (io), 22 nSPD_LED/GPIO2 (io), 23 EECLK (out), 24 EECS (out), 25 EEDO (out), 26 EEDI (in), 27 VDD33IO (power), 28 nTRST (in), 29 TMS (in), 30 TDI (in), 31 TDO (out), 32 TCK (in), 33 VDD33IO (power), 34 TEST2 (in), 35 GPIO3 (io), 36 GPIO4 (io), 37 GPIO5 (io), 38 VDD18CORE (power), 39 VDD33IO (power), 40 TEST3 (power), 41 AUTOMDIX_EN (in), 42 GPIO6 (io), 43 GPIO7 (io), 44 CLK24_EN (in), 45 CLK24_OUT (out), 46 VDD33IO (power), 47 TEST4 (out), 48 VDD18ETHPLL (power), 49 VDD33A (power), 50 EXRES, 51 VDD33A (power), 52 RXP (io), 53 RXN (io), 54 VDD33A (power), 55 TXP (io), 56 TXN (io), 57 VDD33A (power), 58 USBDM0 (io), 59 USBDP0 (io), 60 XO (out), 61 XI (in), 62 VDD18USBPLL (power), 63 USBRBIAS, 64 VDD33A (power), 65 VSS/FLAG (power)
text: Power; Upstream; Downstream; EEPROM; Ethernet; GPIO + Misc; Clocks; JTAG

## LAN9514_QFN64 (Customer)_4
designator U?  PART#: LAN9514  (hidden comment: *)
PCB Footprint: QFN64_9X9MM_EP7P3MM
footprint QFN64_9X9MM_EP7P3MM
pins: 1 USBDM2 (io), 2 USBDP2 (io), 3 USBDM3 (io), 4 USBDP3 (io), 5 VDD33A (power), 6 USBDM4 (io), 7 USBDP4 (io), 8 USBDM5 (io), 9 USBDP5 (io), 10 VDD33A (power), 11 VBUS_DET (in), 12 n_RESET (in), 13 TEST1 (out), 14 PRTCTL2 (io), 15 VDD18CORE (power), 16 PRTCTL3 (io), 17 PRTCTL4 (io), 18 PRTCTL5 (io), 19 VDD33IO (power), 20 nFDX_LED/GPIO0 (io), 21 nLNKA_LED/GPIO1 (io), 22 nSPD_LED/GPIO2 (io), 23 EECLK (out), 24 EECS (out), 25 EEDO (out), 26 EEDI (in), 27 VDD33IO (power), 28 nTRST (in), 29 TMS (in), 30 TDI (in), 31 TDO (out), 32 TCK (in), 33 VDD33IO (power), 34 TEST2 (in), 35 GPIO3 (io), 36 GPIO4 (io), 37 GPIO5 (io), 38 VDD18CORE (power), 39 VDD33IO (power), 40 TEST3 (power), 41 AUTOMDIX_EN (in), 42 GPIO6 (io), 43 GPIO7 (io), 44 CLK24_EN (in), 45 CLK24_OUT (out), 46 VDD33IO (power), 47 TEST4 (out), 48 VDD18ETHPLL (power), 49 VDD33A (power), 50 EXRES, 51 VDD33A (power), 52 RXP (io), 53 RXN (io), 54 VDD33A (power), 55 TXP (io), 56 TXN (io), 57 VDD33A (power), 58 USBDM0 (io), 59 USBDP0 (io), 60 XO (out), 61 XI (in), 62 VDD18USBPLL (power), 63 USBRBIAS, 64 VDD33A (power), 65 VSS/FLAG (power)
text: Power; Upstream; Downstream; EEPROM; Ethernet; GPIO + Misc; Clocks; JTAG

## LED
designator D?
pins: 1 ANODE, 2 CATHODE

## LED_0
designator D?
CLASS: IC
pins: 1 ANODE, 2 CATHODE

## LED_1
designator D?
CLASS: IC
pins: 1 ANODE, 2 CATHODE

## LED_1_1
designator D?
CLASS: IC
pins: 1 ANODE, 2 CATHODE

## LED_2
designator D?
CLASS: IC
pins: 1 ANODE, 2 CATHODE

## LED_2_1
designator D?
CLASS: IC
pins: 1 ANODE, 2 CATHODE

## LM3526-L
designator E?
footprint soic8
pins: 1 ENA, 2 nFLAG_A, 3 nFLAG_B, 4 ENB, 5 VOUTB, 6 GND, 7 VIN, 8 V0UTA

## LM7805C/TO220_0
designator U?
pins: 1 GND (power), 2 OUT, 3 IN (in), 4

## MICRO_USB_CONN_0
designator J?
CLASS: IO
pins: 1 VBUS, 2 D-, 3 D+, 4 ID, 5 GND, 6 SHELL1, 7 SHELL2, 8 SHELL3

## MICRO_USB_CONN_0_1
designator J?
CLASS: IO
pins: 1 VBUS, 2 D-, 3 D+, 4 ID, 5 GND, 6 SHELL1, 7 SHELL2, 8 SHELL3

## MICRO_USB_CONN_0_Dup1
designator J?
CLASS: IO
pins: 1 VBUS, 2 D-, 3 D+, 4 ID, 5 GND, 6 SHELL1, 7 SHELL2, 8 SHELL3

## MINI_PCI_LATCH_52P
designator J?
CLASS: IO
pins: 1 WAKE#, 2 3.3V_1, 3 Reserved1 (in), 4 GND7, 5 Reserved2 (in), 6 1.5V_1, 7 CLKREQ#, 8 UIM_PWR, 9 GND1, 10 UIM_DATA, 11 REFCLK-, 12 UIM_CLK, 13 REFCLK+, 14 UIM_RESET, 15 GND2, 16 UIM_VPP, 17 Reserved/UIM_C8 (in), 18 GND8, 19 Reserved/UIM_C4, 20 W_DISABLE#, 21 GND3, 22 PERST#, 23 PERn0, 24 +3.3Vaux, 25 PERp0, 26 GND9, 27 GND4, 28 1.5V_2, 29 GND5, 30 SMB_CLK, 31 PETn0, 32 SMB_DATA, 33 PETp0, 34 GND10, 35 GND6, 36 USB_D-, 37 Reserved3, 38 USB_D+, 39 Reserved4, 40 GND11, 41 Reserved5, 42 LED_WWAN#, 43 Reserved6, 44 LED_WLAN#, 45 Reserved7, 46 LED_WPAN#, 47 Reserved8, 48 1.5V_3, 49 Reserved9, 50 GND12, 51 Reserved10, 52 3.3V_2

## MOSFET_P
designator Q?
CLASS: IC
pins: 1 GATE, 2 SOURCE, 3 DRAIN

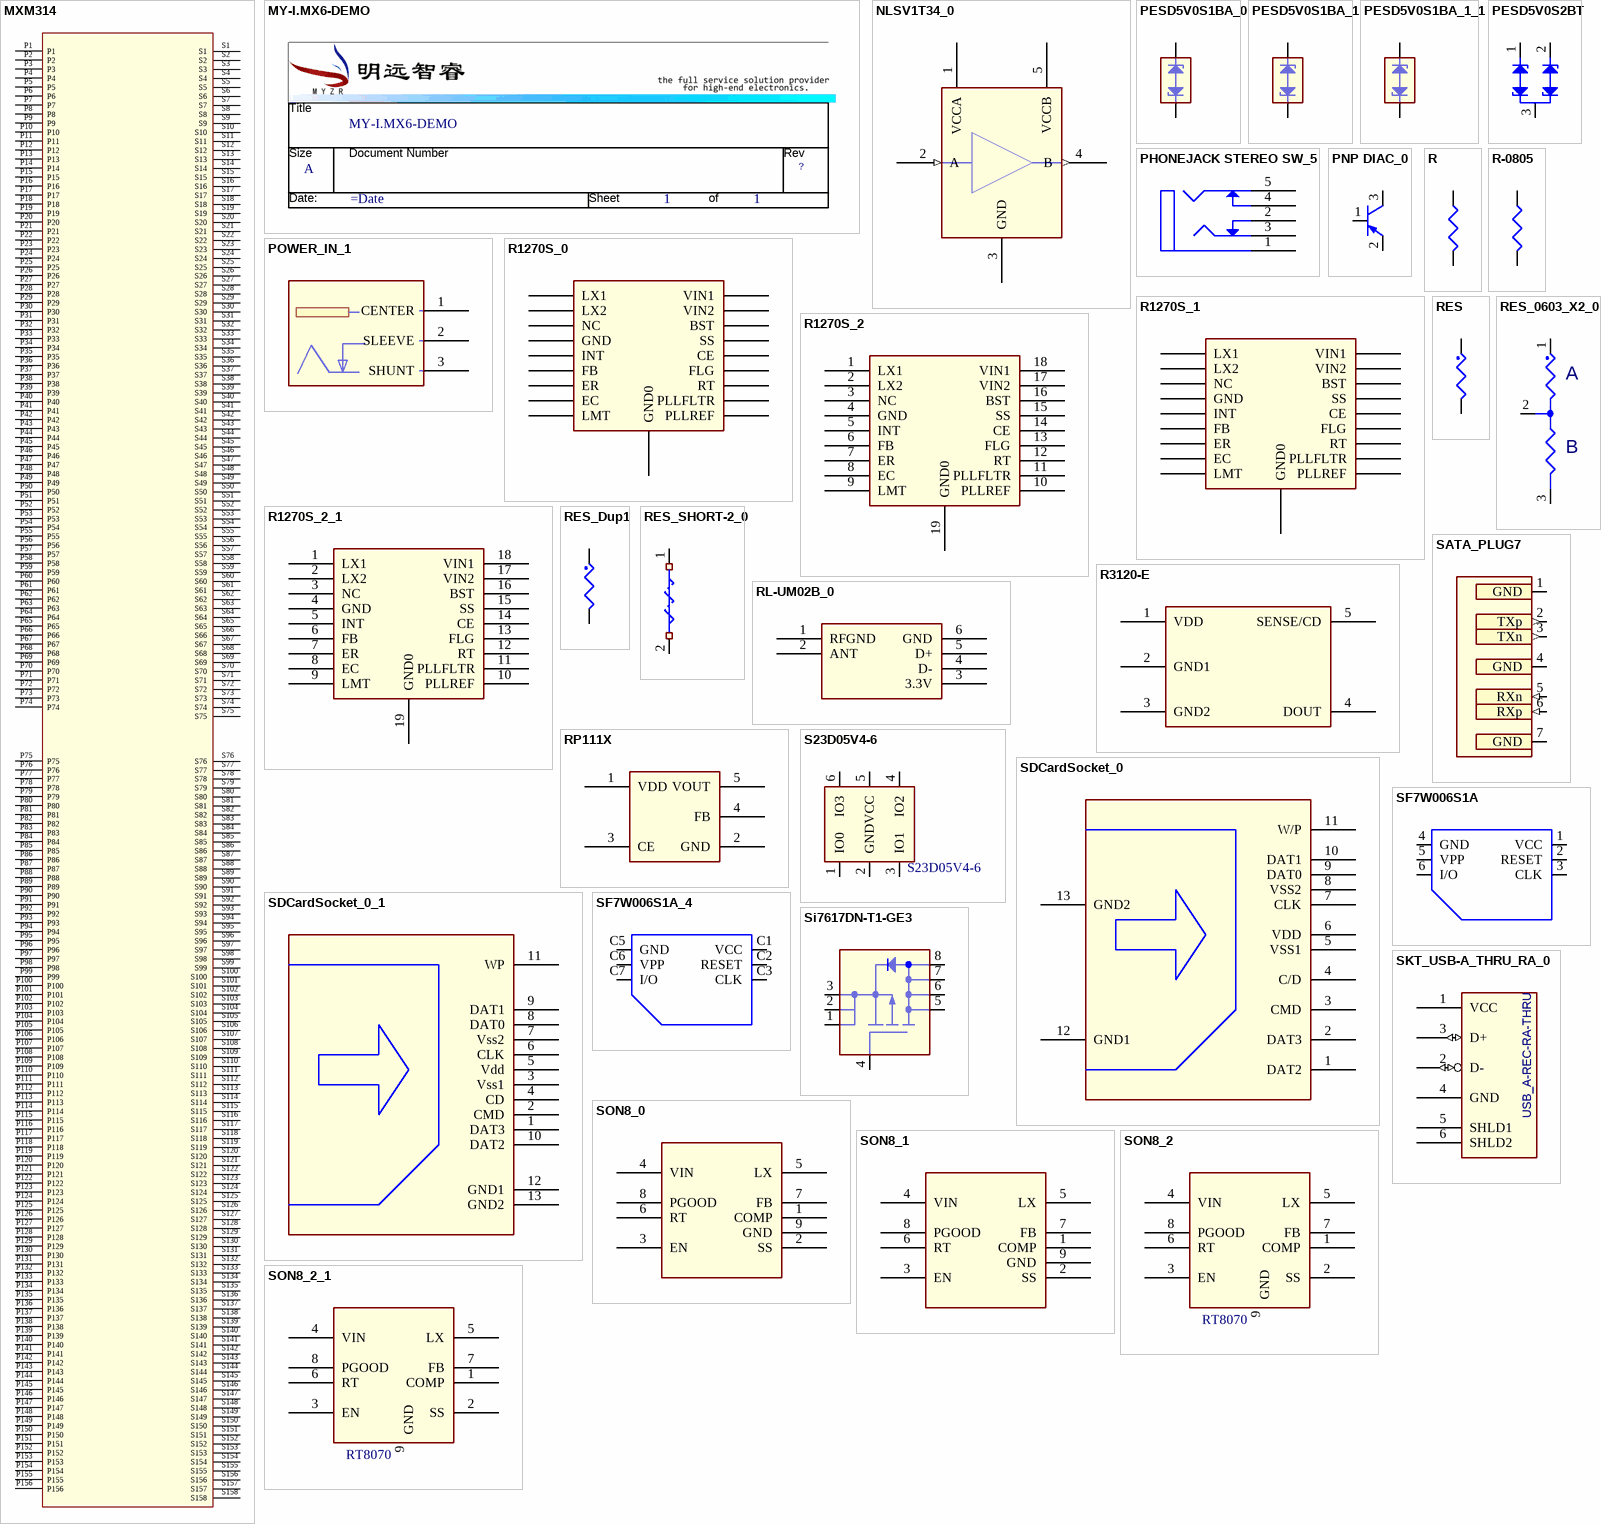
[diagram p6: symbols MXM314 to SON8_2_1]

## MXM314
designator U?
pins: P1, P2, P3, P4, P5, P6, P7, P8, P9, P10, P11, P12, P13, P14, P15, P16, P17, P18, P19, P20, P21, P22, P23, P24, P25, P26, P27, P28, P29, P30, P31, P32, P33, P34, P35, P36, P37, P38, P39, P40, P41, P42, P43, P44, P45, P46, P47, P48, P49, P50, P51, P52, P53, P54, P55, P56, P57, P58, P59, P60, P61, P62, P63, P64, P65, P66, P67, P68, P69, P70, P71, P72, P73, P74, P75, P76, P77, P78, P79, P80, P81, P82, P83, P84, P85, P86, P87, P88, P89, P90, P91, P92, P93, P94, P95, P96, P97, P98, P99, P100, P101, P102, P103, P104, P105, P106, P107, P108, P109, P110, P111, P112, P113, P114, P115, P116, P117, P118, P119, P120, P121, P122, P123, P124, P125, P126, P127, P128, P129, P130, P131, P132, P133, P134, P135, P136, P137, P138, P139, P140, P141, P142, P143, P144, P145, P146, P147, P148, P149, P150, P151, P152, P153, P154, P155, P156, S1, S2, S3, S4, S5, S6, S7, S8, S9, S10, S11, S12, S13, S14, S15, S16, S17, S18, S19, S20, S21, S22, S23, S24, S25, S26, S27, S28, S29, S30, S31, S32, S33, S34, S35, S36, S37, S38, S39, S40, S41, S42, S43, S44, S45, S46, S47, S48, S49, S50, S51, S52, S53, S54, S55, S56, S57, S58, S59, S60, S61, S62, S63, S64, S65, S66, S67, S68, S69, S70, S71, S72, S73, S74, S75, S76, S77, S78, S79, S80, S81, S82, S83, S84, S85, S86, S87, S88, S89, S90, S91, S92, S93, S94, S95, S96, S97, S98, S99, S100, S101, S102, S103, S104, S105, S106, S107, S108, S109, S110, S111, S112, S113, S114, S115, S116, S117, S118, S119, S120, S121, S122, S123, S124, S125, S126, S127, S128, S129, S130, S131, S132, S133, S134, S135, S136, S137, S138, S139, S140, S141, S142, S143, S144, S145, S146, S147, S148, S149, S150, S151, S152, S153, S154, S155, S156, S157, S158

## MY-I.MX6-DEMO
designator *  Page Count: 1  Page Size: A  Title: MY-I.MX6-DEMO  (hidden comment: *)  (graphical)
Page Number: 1; RevCode: ?; Page Create Date: March  8, 1995; Page Modify Date: =Date
text: Title; Size; Document Number; Rev; Date:; Sheet; of

## NLSV1T34_0
designator U?
CLASS: IC
pins: 1 VCCA (power), 2 A (in), 3 GND (power), 4 B (out), 5 VCCB (power)

## PESD5V0S1BA_0
designator U?
pins: 1 A, 2 C

## PESD5V0S1BA_1
designator U?
pins: 1, 2

## PESD5V0S1BA_1_1
designator U?
pins: 1, 2

## PESD5V0S2BT
designator U?
pins: 1, 2, 3

## PHONEJACK STEREO SW_5
designator J?
pins: 1 E, 2 C, 3 D, 4 B, 5 A

## PNP DIAC_0
designator Q?
pins: 1 B, 2 E, 3 O

## POWER_IN_1
designator L?
pins: 1 CENTER, 2 SLEEVE, 3 SHUNT

## R
designator R?
pins: 1, 2

## R1270S_0
designator U?
pins: 1 LX1, 2 LX2, 3 NC, 4 GND, 5 INT, 6 FB, 7 ER, 8 EC, 9 LMT, 10 PLLREF, 11 PLLFLTR, 12 RT, 13 FLG, 14 CE, 15 SS, 16 BST, 17 VIN2, 18 VIN1, 19 GND0 (power)

## R1270S_1
designator U?
pins: 1 LX1, 2 LX2, 3 NC, 4 GND, 5 INT, 6 FB, 7 ER, 8 EC, 9 LMT, 10 PLLREF, 11 PLLFLTR, 12 RT, 13 FLG, 14 CE, 15 SS, 16 BST, 17 VIN2, 18 VIN1, 19 GND0 (power)

## R1270S_2
designator U?
pins: 1 LX1, 2 LX2, 3 NC, 4 GND, 5 INT, 6 FB, 7 ER, 8 EC, 9 LMT, 10 PLLREF, 11 PLLFLTR, 12 RT, 13 FLG, 14 CE, 15 SS, 16 BST, 17 VIN2, 18 VIN1, 19 GND0 (power)

## R1270S_2_1
designator U?
pins: 1 LX1, 2 LX2, 3 NC, 4 GND, 5 INT, 6 FB, 7 ER, 8 EC, 9 LMT, 10 PLLREF, 11 PLLFLTR, 12 RT, 13 FLG, 14 CE, 15 SS, 16 BST, 17 VIN2, 18 VIN1, 19 GND0 (power)

## R3120-E
designator U?
pins: 1 VDD, 2 GND1, 3 GND2, 4 DOUT, 5 SENSE/CD

## R-0805
designator R?
footprint R-0805
pins: 1, 2

## RES
designator R?
CLASS: DISCRETE
pins: 1, 2

## RES_0603_X2_0
designator R?
CLASS: DISCRETE
pins: 1, 2, 3
text: A; B

## RES_Dup1
designator R?
CLASS: DISCRETE
pins: 1, 2

## RES_SHORT-2_0
designator SH?
CLASS: DISCRETE
pins: 1, 2

## RL-UM02B_0
designator U?
pins: 1 RFGND, 2 ANT, 3 3.3V, 4 D-, 5 D+, 6 GND

## RP111X
designator U?
pins: 1 VDD, 2 GND, 3 CE, 4 FB, 5 VOUT

## S23D05V4-6
designator U?
pins: 1 IO0, 2 GND, 3 IO1, 4 IO2, 5 VCC, 6 IO3

## SATA_PLUG7
designator J?
CLASS: IO
pins: 1 GND (power), 2 TXp (out), 3 TXn (out), 4 GND (power), 5 RXn (in), 6 RXp (in), 7 GND (power)

## SDCardSocket_0
designator J?
footprint SDCARD_PROCONN
pins: 1 DAT2, 2 DAT3, 3 CMD, 4 C/D, 5 VSS1, 6 VDD, 7 CLK, 8 VSS2, 9 DAT0, 10 DAT1, 11 W/P, 12 GND1, 13 GND2

## SDCardSocket_0_1
designator J?
pins: 1 DAT3, 2 CMD, 3 Vss1, 4 CD, 5 Vdd, 6 CLK, 7 Vss2, 8 DAT0, 9 DAT1, 10 DAT2, 11 WP, 12 GND1, 13 GND2

## SF7W006S1A
designator J?
CLASS: IO
pins: 1 VCC (power), 2 RESET, 3 CLK, 4 GND (power), 5 VPP, 6 I/O (io)

## SF7W006S1A_4
designator J?
CLASS: IO
pins: C1 VCC (power), C2 RESET, C3 CLK, C5 GND (power), C6 VPP, C7 I/O (io)

## Si7617DN-T1-GE3
designator Q?
footprint QFN-8-3R3x3R3
pins: 1 S1, 2 S2, 3 S3, 4 G, 5 D5, 6 D6, 7 D7, 8 D8

## SKT_USB-A_THRU_RA_0
designator J?, comment CONN_4P  (value not drawn)
Receptacle, USB, Style A, Right Angle, Through-hole; Cost_Reel: 0.6205; Dist1: Digikey; Dist1_PN: 787616-1-ND; Mfg1_PN: 787616-1; Mfg2_PN: USB-A-S-RA; Mfg1: AMP; Device: SKT_USB-A; SDTSourceLibName: C:\WINDOWS\EFE9203.LIB; Cost_100: 0.7476; DNP: No; Cost: 1.12; Mfg2: Adam Tech; Cost_1K: 0.6205
footprint AMP_787616-x
pins: 1 VCC, 2 D- (io), 3 D+ (io), 4 GND, 5 SHLD1, 6 SHLD2
text: USB_A-REC-RA-THRU

## SON8_0
designator U?
pins: 1 COMP, 2 SS, 3 EN, 4 VIN, 5 LX, 6 RT, 7 FB, 8 PGOOD, 9 GND

## SON8_1
designator U?
pins: 1 COMP, 2 SS, 3 EN, 4 VIN, 5 LX, 6 RT, 7 FB, 8 PGOOD, 9 GND

## SON8_2
designator U?, comment RT8070
pins: 1 COMP, 2 SS, 3 EN, 4 VIN, 5 LX, 6 RT, 7 FB, 8 PGOOD, 9 GND

## SON8_2_1
designator U?, comment RT8070
pins: 1 COMP, 2 SS, 3 EN, 4 VIN, 5 LX, 6 RT, 7 FB, 8 PGOOD, 9 GND

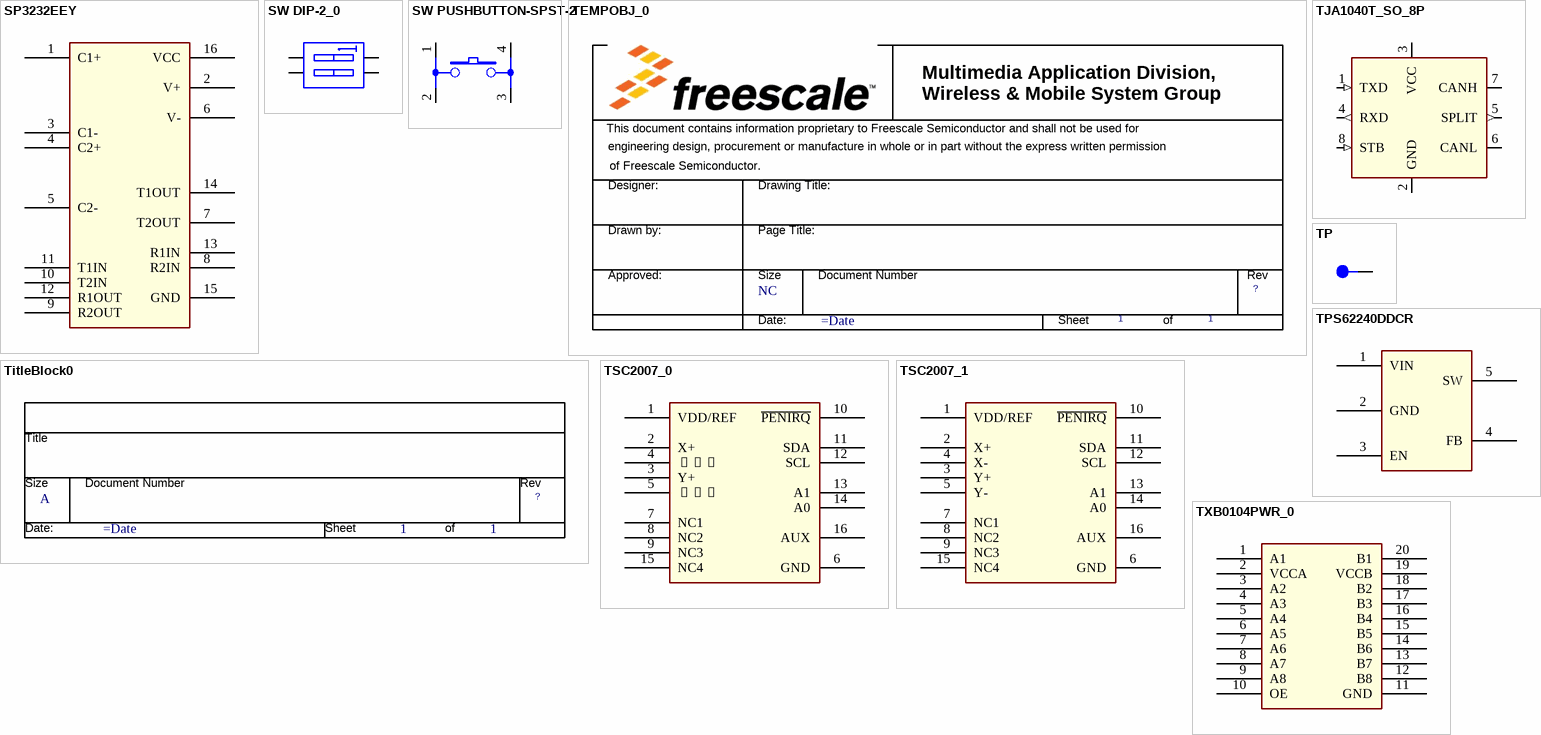
[diagram p7: symbols SP3232EEY to TXB0104PWR_0]

## SP3232EEY
designator U?
pins: 1 C1+, 2 V+, 3 C1-, 4 C2+, 5 C2-, 6 V-, 7 T2OUT, 8 R2IN, 9 R2OUT, 10 T2IN, 11 T1IN, 12 R1OUT, 13 R1IN, 14 T1OUT, 15 GND, 16 VCC

## SW DIP-2_0
designator SW?
pins: 1 A1, 2 A2, 3 B2, 4 B1

## SW PUSHBUTTON-SPST-2
designator SW?
pins: 1, 2, 3, 4

## TEMPOBJ_0
designator *  Page Size: NC  Page Number: 1  (hidden comment: *)  (graphical)
Page Create Date: March  8, 1995; RevCode: ?; Page Count: 1; Page Modify Date: =Date
text: Multimedia Application Division, / Wireless & Mobile System Group; This document contains information proprietary to Freescale Semiconductor and shall not be used for; engineering design, procurement or manufacture in whole or in part without the express written permission; of Freescale Semiconductor.; Designer:; Drawing Title:; Drawn by:; Page Title:; Approved:; Size; Document Number; Rev; Date:; Sheet; of

## TitleBlock0
designator *  Page Size: A  Page Number: 1  (hidden comment: *)  (graphical)
Page Create Date: March  8, 1995; RevCode: ?; Page Count: 1; Page Modify Date: =Date
text: Title; Size; Document Number; Rev; Date:; Sheet; of

## TJA1040T_SO_8P
designator U?
CLASS: IC
pins: 1 TXD (in), 2 GND (power), 3 VCC (power), 4 RXD (out), 5 SPLIT (out), 6 CANL (io), 7 CANH (io), 8 STB (in)

## TP
designator TP?
pins: 1

## TPS62240DDCR
designator U?
pins: 1 VIN, 2 GND, 3 EN, 4 FB, 5 SW

## TSC2007_0
designator U?
footprint TSSOP16
pins: 1 VDD/REF, 2 X+, 3 Y+, 4 X�C, 5 Y�C, 6 GND, 7 NC1, 8 NC2, 9 NC3, 10 ~{PENIRQ}, 11 SDA, 12 SCL, 13 A1, 14 A0, 15 NC4, 16 AUX

## TSC2007_1
designator U?
footprint TSSOP16
pins: 1 VDD/REF, 2 X+, 3 Y+, 4 X-, 5 Y-, 6 GND, 7 NC1, 8 NC2, 9 NC3, 10 ~{PENIRQ}, 11 SDA, 12 SCL, 13 A1, 14 A0, 15 NC4, 16 AUX

## TXB0104PWR_0
designator U?
pins: 1 A1, 2 VCCA, 3 A2, 4 A3, 5 A4, 6 A5, 7 A6, 8 A7, 9 A8, 10 OE, 11 GND, 12 B8, 13 B7, 14 B6, 15 B5, 16 B4, 17 B3, 18 B2, 19 VCCB, 20 B1

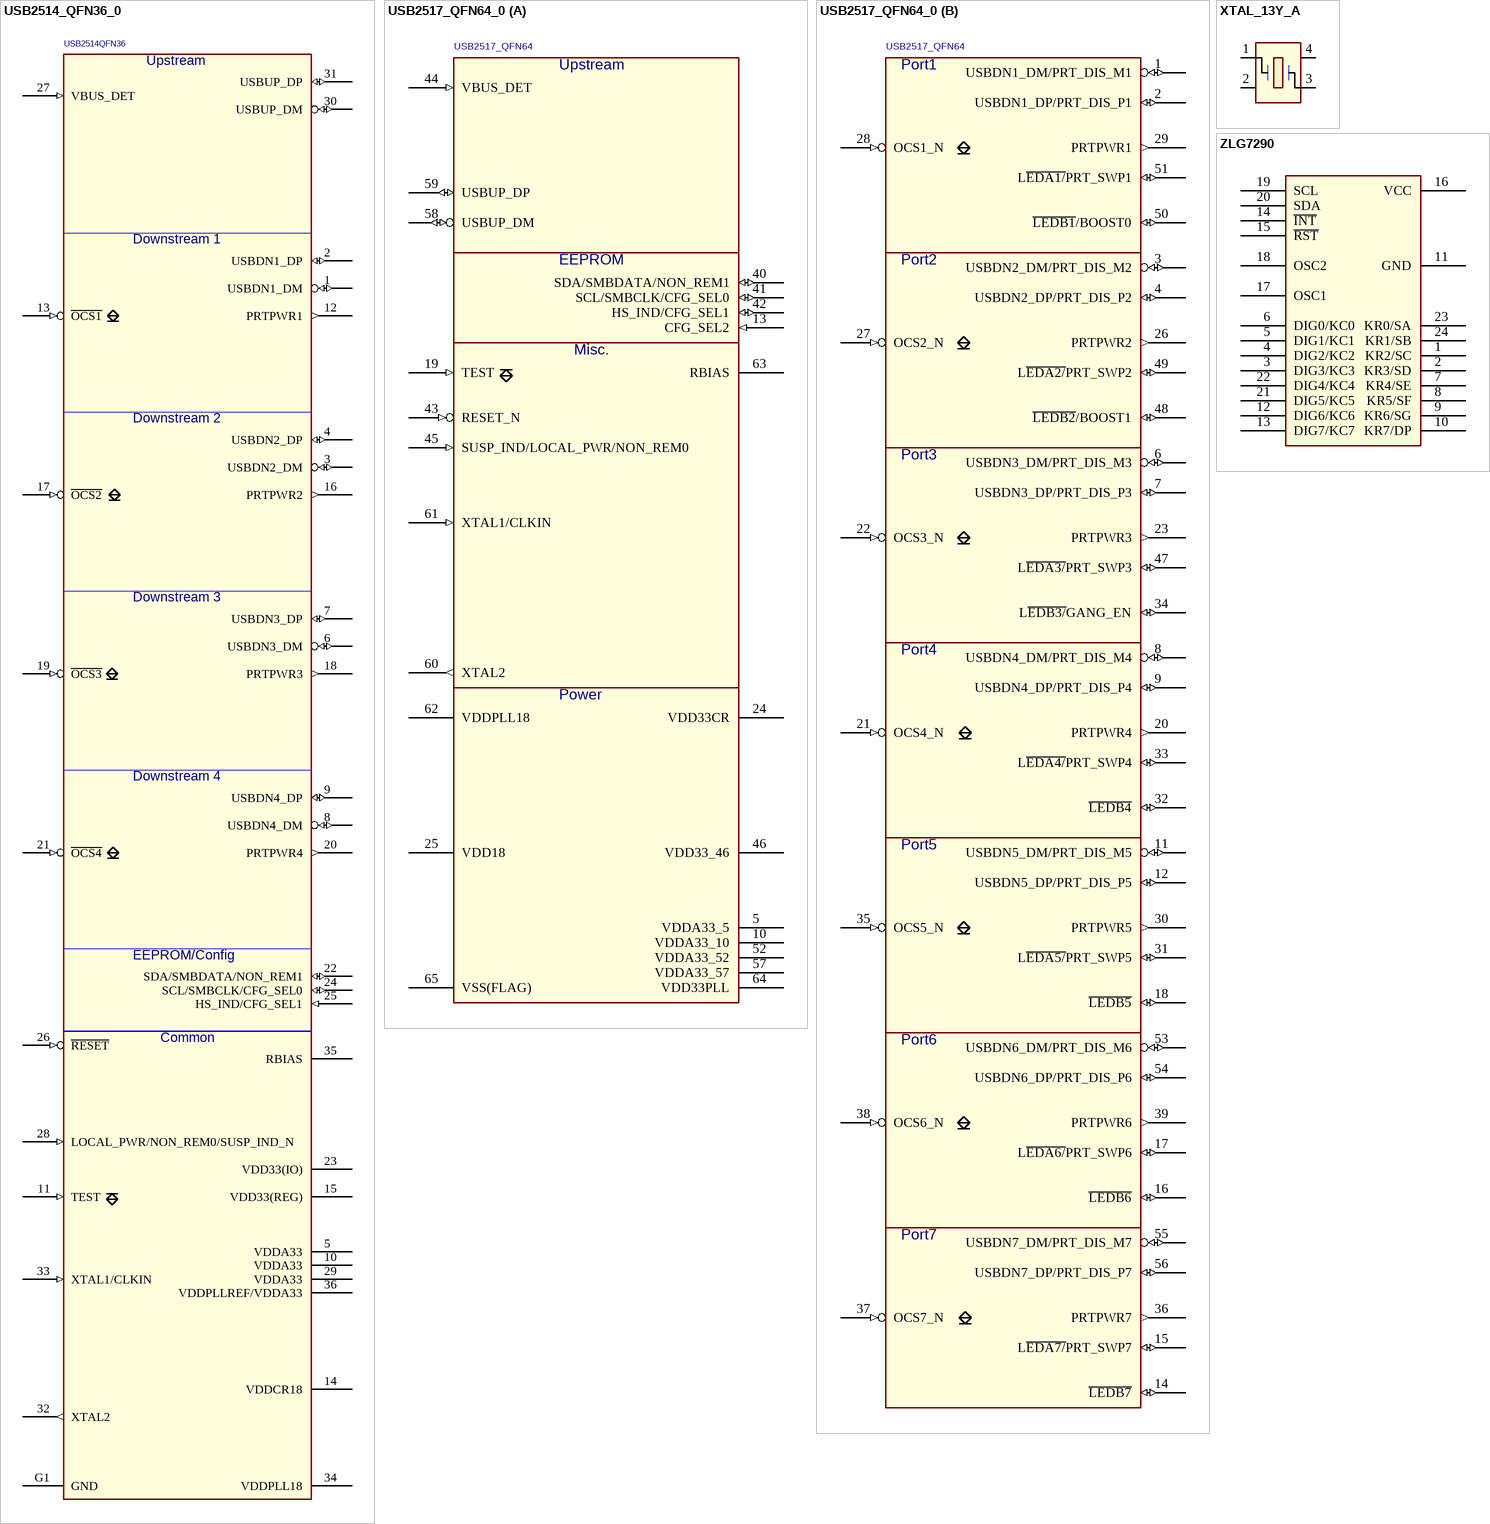
[diagram p8: symbols USB2514_QFN36_0 to ZLG7290]

## USB2514_QFN36_0
designator U?  Device: USB2514QFN36  (hidden comment: *)
IC, USB2514, 4 Port USB 2.0 Hub, QFN36; Mfg1_PN: USB2514-AEZG; Mfg1: SMSC; Cost_Reel: 0; DNP: No; Cost: 0; Cost_1K: 0; Cost_100: 0
footprint QFP_6X6_36
pins: 1 USBDN1_DM (io), 2 USBDN1_DP (io), 3 USBDN2_DM (io), 4 USBDN2_DP (io), 5 VDDA33 (power), 6 USBDN3_DM (io), 7 USBDN3_DP (io), 8 USBDN4_DM (io), 9 USBDN4_DP (io), 10 VDDA33 (power), 11 TEST (in), 12 PRTPWR1 (out), 13 ~{OCS1} (in), 14 VDDCR18 (power), 15 VDD33(REG) (power), 16 PRTPWR2 (out), 17 ~{OCS2} (in), 18 PRTPWR3 (out), 19 ~{OCS3} (in), 20 PRTPWR4 (out), 21 ~{OCS4} (in), 22 SDA/SMBDATA/NON_REM1 (io), 23 VDD33(IO) (power), 24 SCL/SMBCLK/CFG_SEL0 (io), 25 HS_IND/CFG_SEL1 (in), 26 ~{RESET} (in), 27 VBUS_DET (in), 28 LOCAL_PWR/NON_REM0/SUSP_IND_N (in), 29 VDDA33 (power), 30 USBUP_DM (io), 31 USBUP_DP (io), 32 XTAL2 (out), 33 XTAL1/CLKIN (in), 34 VDDPLL18 (power), 35 RBIAS, 36 VDDPLLREF/VDDA33 (power), G1 GND
text: Upstream; Downstream 1; Downstream 2; Downstream 3; Downstream 4; EEPROM/Config; Common

## USB2517_QFN64_0
designator U?  Device: USB2517_QFN64  (hidden comment: *)
IC, USB2517, 7 Port USB 2.0 Hub, QFN-64; DNP: No; Mfg1: Standard Microsystems Corp; Cost_Reel: 0; Mfg1_PN: USB2517; Cost: 0; Cost_1K: 0; Cost_100: 0
footprint QFN_9X9-64
part A pins: 5 VDDA33_5 (power), 10 VDDA33_10 (power), 13 CFG_SEL2 (in), 19 TEST (in), 24 VDD33CR (power), 25 VDD18 (power), 40 SDA/SMBDATA/NON_REM1 (io), 41 SCL/SMBCLK/CFG_SEL0 (io), 42 HS_IND/CFG_SEL1 (io), 43 RESET_N (in), 44 VBUS_DET (in), 45 SUSP_IND/LOCAL_PWR/NON_REM0 (in), 46 VDD33_46 (power), 52 VDDA33_52 (power), 57 VDDA33_57 (power), 58 USBUP_DM (io), 59 USBUP_DP (io), 60 XTAL2 (out), 61 XTAL1/CLKIN (in), 62 VDDPLL18 (power), 63 RBIAS, 64 VDD33PLL (power), 65 VSS(FLAG) (power)
part B pins: 1 USBDN1_DM/PRT_DIS_M1 (io), 2 USBDN1_DP/PRT_DIS_P1 (io), 3 USBDN2_DM/PRT_DIS_M2 (io), 4 USBDN2_DP/PRT_DIS_P2 (io), 6 USBDN3_DM/PRT_DIS_M3 (io), 7 USBDN3_DP/PRT_DIS_P3 (io), 8 USBDN4_DM/PRT_DIS_M4 (io), 9 USBDN4_DP/PRT_DIS_P4 (io), 11 USBDN5_DM/PRT_DIS_M5 (io), 12 USBDN5_DP/PRT_DIS_P5 (io), 14 ~{LEDB7} (io), 15 L~{EDA7/}PRT_SWP7 (io), 16 ~{LEDB6} (io), 17 L~{EDA6/}PRT_SWP6 (io), 18 ~{LEDB5} (io), 20 PRTPWR4 (out), 21 OCS4_N (in), 22 OCS3_N (in), 23 PRTPWR3 (out), 26 PRTPWR2 (out), 27 OCS2_N (in), 28 OCS1_N (in), 29 PRTPWR1 (out), 30 PRTPWR5 (out), 31 L~{EDA5/}PRT_SWP5 (io), 32 ~{LEDB4} (io), 33 L~{EDA4/}PRT_SWP4 (io), 34 L~{EDB3/}GANG_EN (io), 35 OCS5_N (in), 36 PRTPWR7 (out), 37 OCS7_N (in), 38 OCS6_N (in), 39 PRTPWR6 (out), 47 L~{EDA3/}PRT_SWP3 (io), 48 ~{LEDB2}/BOOST1 (io), 49 L~{EDA2/}PRT_SWP2 (io), 50 ~{LEDB1}/BOOST0 (io), 51 L~{EDA1/}PRT_SWP1 (io), 53 USBDN6_DM/PRT_DIS_M6 (io), 54 USBDN6_DP/PRT_DIS_P6 (io), 55 USBDN7_DM/PRT_DIS_M7 (io), 56 USBDN7_DP/PRT_DIS_P7 (io)
part A text: Upstream; EEPROM; Misc.; Power
part B text: Port1; Port2; Port3; Port4; Port5; Port6; Port7

## XTAL_13Y_A
designator Y?
CLASS: IC
pins: 1, 2, 3, 4

## ZLG7290
designator U?
pins: 1 KR2/SC, 2 KR3/SD, 3 DIG3/KC3, 4 DIG2/KC2, 5 DIG1/KC1, 6 DIG0/KC0, 7 KR4/SE, 8 KR5/SF, 9 KR6/SG, 10 KR7/DP, 11 GND, 12 DIG6/KC6, 13 DIG7/KC7, 14 ~{INT}, 15 ~{RST}, 16 VCC, 17 OSC1, 18 OSC2, 19 SCL, 20 SDA, 21 DIG5/KC5, 22 DIG4/KC4, 23 KR0/SA, 24 KR1/SB